# EAGLE library part RE?* (library relay)
SMALL MICROWAVE RELAYS FOR BROADCASTING INDUSTRY NAiS Source: http://www.mew-europe.com/.. en_ds_61310_0000.pdf
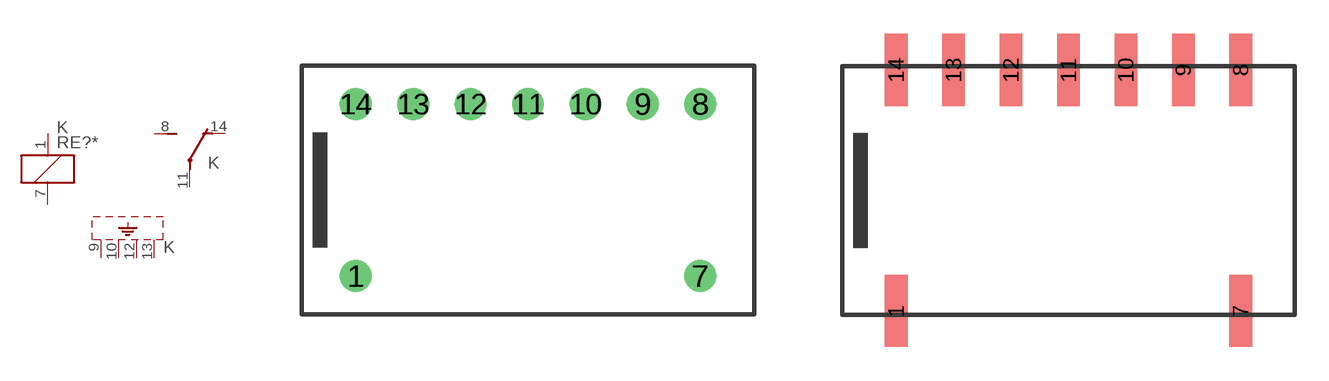
[diagram p106: symbol with the pads of RE; footprints RE, RE-SMD]

Designator prefix K; gates 1=K 2=U S1=SHIELD-4

## RE1303 (MF: AROMAT/ MATSUSHITA; MPN: ARE1303; OC_FARNELL: 1448347; OC_NEWARK: 64K3078), RE1306 (MPN: ARE1306; OC_FARNELL: unknown; OC_NEWARK: 11N2917), RE1309 (MPN: ARE1309; OC_FARNELL: unknown; OC_NEWARK: 95M8248), RE1312 (MPN: ARE1312; OC_FARNELL: 3773000; OC_NEWARK: 13P1245), RE1324 (MPN: ARE1324; OC_FARNELL: unknown; OC_NEWARK: 11N2919), RE134H (MPN: ARE134H; OC_FARNELL: 3772998; OC_NEWARK: 13P1246)  [RE]
1  1:1  pas
7  1:2  pas
8  2:S  pas
9  S1:SH  pas
10  S1:SH  pas
11  2:P  pas
12  S1:SH  pas
13  S1:SH  pas
14  2:O  pas

## RE13A03 (MPN: ARE13A03; OC_FARNELL: unknown; OC_NEWARK: 71M0380), RE13A06 (MPN: ARE13A06; OC_FARNELL: unknown; OC_NEWARK: 11N2902), RE13A09 (MPN: ARE13A09; OC_FARNELL: unknown; OC_NEWARK: 11N2904), RE13A12 (MPN: ARE13A12; OC_FARNELL: 3773036; OC_NEWARK: 13P1241), RE13A24 (MPN: ARE13A24; OC_FARNELL: unknown; OC_NEWARK: 11N2909), RE13A4H (MPN: ARE13A4H; OC_FARNELL: 3773024; OC_NEWARK: 11N2913)  [RE-SMD]
Pads as for RE

## Footprint RE (pad centres in mm)
SMALL MICROWAVE RELAYS FOR BROADCASTING INDUSTRY NAiS Source: http://www.mew-europe.com/.. en_ds_61310_0000.pdf
drill 0.9: 1 -7.62,-3.81; 7 7.62,-3.81; 8 7.62,3.81; 9 5.08,3.81; 10 2.54,3.81; 11 0,3.81; 12 -2.54,3.81; 13 -5.08,3.81; 14 -7.62,3.81

## Footprint RE-SMD (pad centres in mm)
SMALL MICROWAVE RELAYS FOR BROADCASTING INDUSTRY NAiS Source: http://www.mew-europe.com/.. en_ds_61310_0000.pdf
smd 1 x 3.2: 1 -7.62,-5.334; 7 7.62,-5.334; 8 7.62,5.334; 9 5.08,5.334; 10 2.54,5.334; 11 0,5.334; 12 -2.54,5.334; 13 -5.08,5.334; 14 -7.62,5.334